# Altium footprint library D-Digital.PCBLIB: 2 footprints
Each footprint in its own frame and in the unit in brackets; x right, y up, seen from the top. Pads: shape width x height; smd on the part's side, far side on the other; paste and mask are expansions set on the pad; w line width, h text height; cw(c..) or ccw(c..) is an arc to the next point about the centre after c.
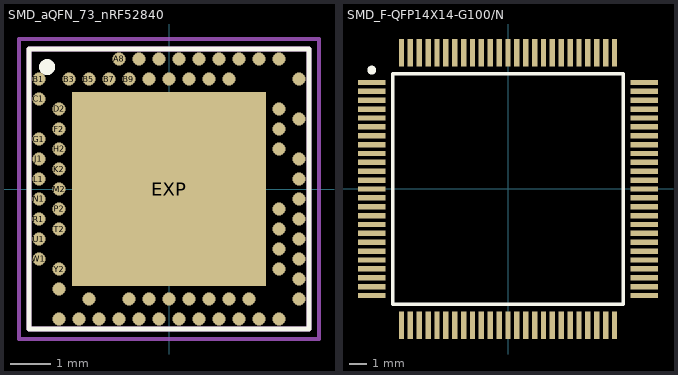
[diagram p0: the footprints below, top view; thin cyan lines are the x and y axes]

## SMD_aQFN_73_nRF52840 [mm]
height 0.022
pads (74):
  round 0.33 smd: A8(-1.25,3.25) A10(-0.75,3.25) A12(-0.25,3.25) A14(0.25,3.25) A16(0.75,3.25) A18(1.25,3.25) A20(1.75,3.25) A22(2.25,3.25) A23(2.75,3.25) AA24(3.25,-2.25) AB2(-2.75,-2.5) AC5(-2,-2.75) AC9(-1,-2.75) AC11(-0.5,-2.75) AC13(0,-2.75) AC15(0.5,-2.75) AC17(1,-2.75) AC19(1.5,-2.75) AC21(2,-2.75) AC24(3.25,-2.75) AD2(-2.75,-3.25) AD4(-2.25,-3.25) AD6(-1.75,-3.25) AD8(-1.25,-3.25) AD10(-0.75,-3.25) AD12(-0.25,-3.25) AD14(0.25,-3.25) AD16(0.75,-3.25) AD18(1.25,-3.25) AD20(1.75,-3.25) AD22(2.25,-3.25) AD23(2.75,-3.25) B1(-3.25,2.75) B3(-2.5,2.75) B5(-2,2.75) B7(-1.5,2.75) B9(-1,2.75) B11(-0.5,2.75) B13(0,2.75) B15(0.5,2.75) B17(1,2.75) B19(1.5,2.75) B24(3.25,2.75) C1(-3.25,2.25) D2(-2.75,2) D23(2.75,2) E24(3.25,1.75) F2(-2.75,1.5) F23(2.75,1.5) G1(-3.25,1.25) H2(-2.75,1) H23(2.75,1) J1(-3.25,0.75) J24(3.25,0.75) K2(-2.75,0.5) L1(-3.25,0.25) L24(3.25,0.25) M2(-2.75,0) N1(-3.25,-0.25) N24(3.25,-0.25) P2(-2.75,-0.5) P23(2.75,-0.5) R1(-3.25,-0.75) R24(3.25,-0.75) T2(-2.75,-1) T23(2.75,-1) U1(-3.25,-1.25) U24(3.25,-1.25) V23(2.75,-1.5) W1(-3.25,-1.75) W24(3.25,-1.75) Y2(-2.75,-2) Y23(2.75,-2)
  rect 4.85x4.85 smd: EXP(0,0)
Top Overlay:
  circle w0.2: c-3.048,3.048 r0.1
  lines w0.127: -3.5,-3.5 -3.5,3.5 3.5,3.5 3.5,-3.5 -3.5,-3.5
Top Paste:
  region: -1.531,1.53 1.53,1.53 1.53,-1.531 -1.531,-1.531
Mechanical 13:
  lines w0.127: -3.5,-3.5 -3.5,3.5 ; -3.5,-3.5 3.5,-3.5 ; -3.5,-3.5 -3.5,3.5 ; -3.5,-3.5 3.5,-3.5 ; -3.5,3.5 3.5,3.5 ; -3.5,3.5 3.5,3.5 ; 3.5,-3.5 3.5,3.5 ; 3.5,-3.5 3.5,3.5
Mechanical 15:
  lines w0.1: -0.508,0 0.508,0 ; 0,-0.508 0,0.508 ; -3.75,-3.75 -3.75,3.75 3.75,3.75 3.75,-3.75 -3.75,-3.75

## SMD_F-QFP14X14-G100/N [mm] "SMD_F-QFP14X14-G100/N"
pads (100):
  rect 1.55x0.3 smd: 1(-7.681,5.992) 2(-7.681,5.492) 3(-7.681,4.992) 4(-7.681,4.492) 5(-7.681,3.992) 6(-7.681,3.492) 7(-7.681,2.992) 8(-7.681,2.492) 9(-7.681,1.992) 10(-7.681,1.492) 11(-7.681,0.992) 12(-7.681,0.492) 13(-7.681,-0.008) 14(-7.681,-0.508) 15(-7.681,-1.008) 16(-7.681,-1.508) 17(-7.681,-2.008) 18(-7.681,-2.508) 19(-7.681,-3.008) 20(-7.681,-3.508) 21(-7.681,-4.008) 22(-7.681,-4.508) 23(-7.681,-5.008) 24(-7.681,-5.508) 25(-7.681,-6.008) 51(7.669,-6.008) 52(7.669,-5.508) 53(7.669,-5.008) 54(7.669,-4.508) 55(7.669,-4.008) 56(7.669,-3.508) 57(7.669,-3.008) 58(7.669,-2.508) 59(7.669,-2.008) 60(7.669,-1.508) 61(7.669,-1.008) 62(7.669,-0.508) 63(7.669,-0.008) 64(7.669,0.492) 65(7.669,0.992) 66(7.669,1.492) 67(7.669,1.992) 68(7.669,2.492) 69(7.669,2.992) 70(7.669,3.492) 71(7.669,3.992) 72(7.669,4.492) 73(7.669,4.992) 74(7.669,5.492) 75(7.669,5.992)
  rect 0.3x1.55 smd: 26(-6.006,-7.683) 27(-5.506,-7.683) 28(-5.006,-7.683) 29(-4.506,-7.683) 30(-4.006,-7.683) 31(-3.506,-7.683) 32(-3.006,-7.683) 33(-2.506,-7.683) 34(-2.006,-7.683) 35(-1.506,-7.683) 36(-1.006,-7.683) 37(-0.506,-7.683) 38(-0.006,-7.683) 39(0.494,-7.683) 40(0.994,-7.683) 41(1.494,-7.683) 42(1.994,-7.683) 43(2.494,-7.683) 44(2.994,-7.683) 45(3.494,-7.683) 46(3.994,-7.683) 47(4.494,-7.683) 48(4.994,-7.683) 49(5.494,-7.683) 50(5.994,-7.683) 76(5.994,7.667) 77(5.494,7.667) 78(4.994,7.667) 79(4.494,7.667) 80(3.994,7.667) 81(3.494,7.667) 82(2.994,7.667) 83(2.494,7.667) 84(1.994,7.667) 85(1.494,7.667) 86(0.994,7.667) 87(0.494,7.667) 88(-0.006,7.667) 89(-0.506,7.667) 90(-1.006,7.667) 91(-1.506,7.667) 92(-2.006,7.667) 93(-2.506,7.667) 94(-3.006,7.667) 95(-3.506,7.667) 96(-4.006,7.667) 97(-4.506,7.667) 98(-5.006,7.667) 99(-5.506,7.667) 100(-6.006,7.667)
Top Overlay:
  circle w0.25: c-7.681,6.692 r0.125
  lines w0.2: -6.506,-6.508 6.494,-6.508 6.494,6.492 -6.506,6.492 -6.506,-6.508